# Altium schematic symbol library BUCK_BOOST.SchLib: 1 symbol
Pins are listed as number, name and electrical type; pins without a type are passive.

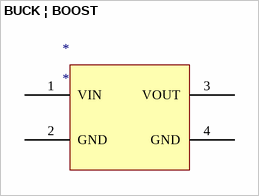
[diagram p0: symbol BUCK | BOOST]

## BUCK | BOOST
designator *
pins: 1 VIN, 2 GND, 3 VOUT, 4 GND